# EAGLE library part DS18S20-8SOIC (library CindysStuff)
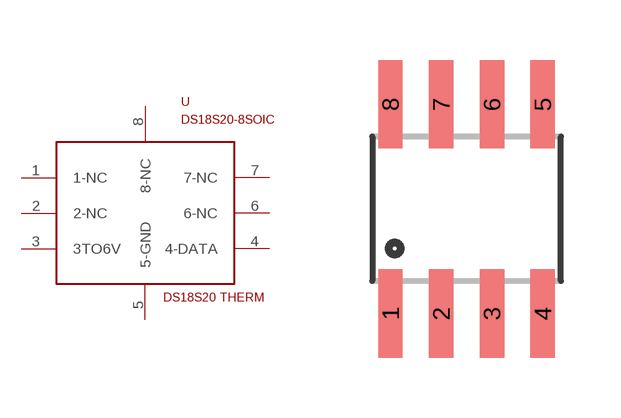
[diagram p2: symbol with the pads of SOIC8-NARROW-150MIL; footprint SOIC8-NARROW-150MIL]

Designator prefix -

## DS18S20-8SOIC  [SOIC8-NARROW-150MIL]
1  1-NC
2  2-NC
3  3TO6V
4  4-DATA
5  5-GND
6  6-NC
7  7-NC
8  8-NC

## Footprint SOIC8-NARROW-150MIL (pad centres in mm)
smd 0.61 x 2.21: 1 -1.905,-2.616; 2 -0.635,-2.616; 3 0.635,-2.616; 4 1.905,-2.616; 5 1.905,2.616; 6 0.635,2.616; 7 -0.635,2.616; 8 -1.905,2.616